# Altium footprint library SparkFun-Aesthetics.PCBLIB: 96 footprints (part 1 of 6)
Each footprint in its own frame and in the unit in brackets; x right, y up, seen from the top. Pads: shape width x height; smd on the part's side, far side on the other; paste and mask are expansions set on the pad; w line width, h text height; cw(c..) or ccw(c..) is an arc to the next point about the centre after c.
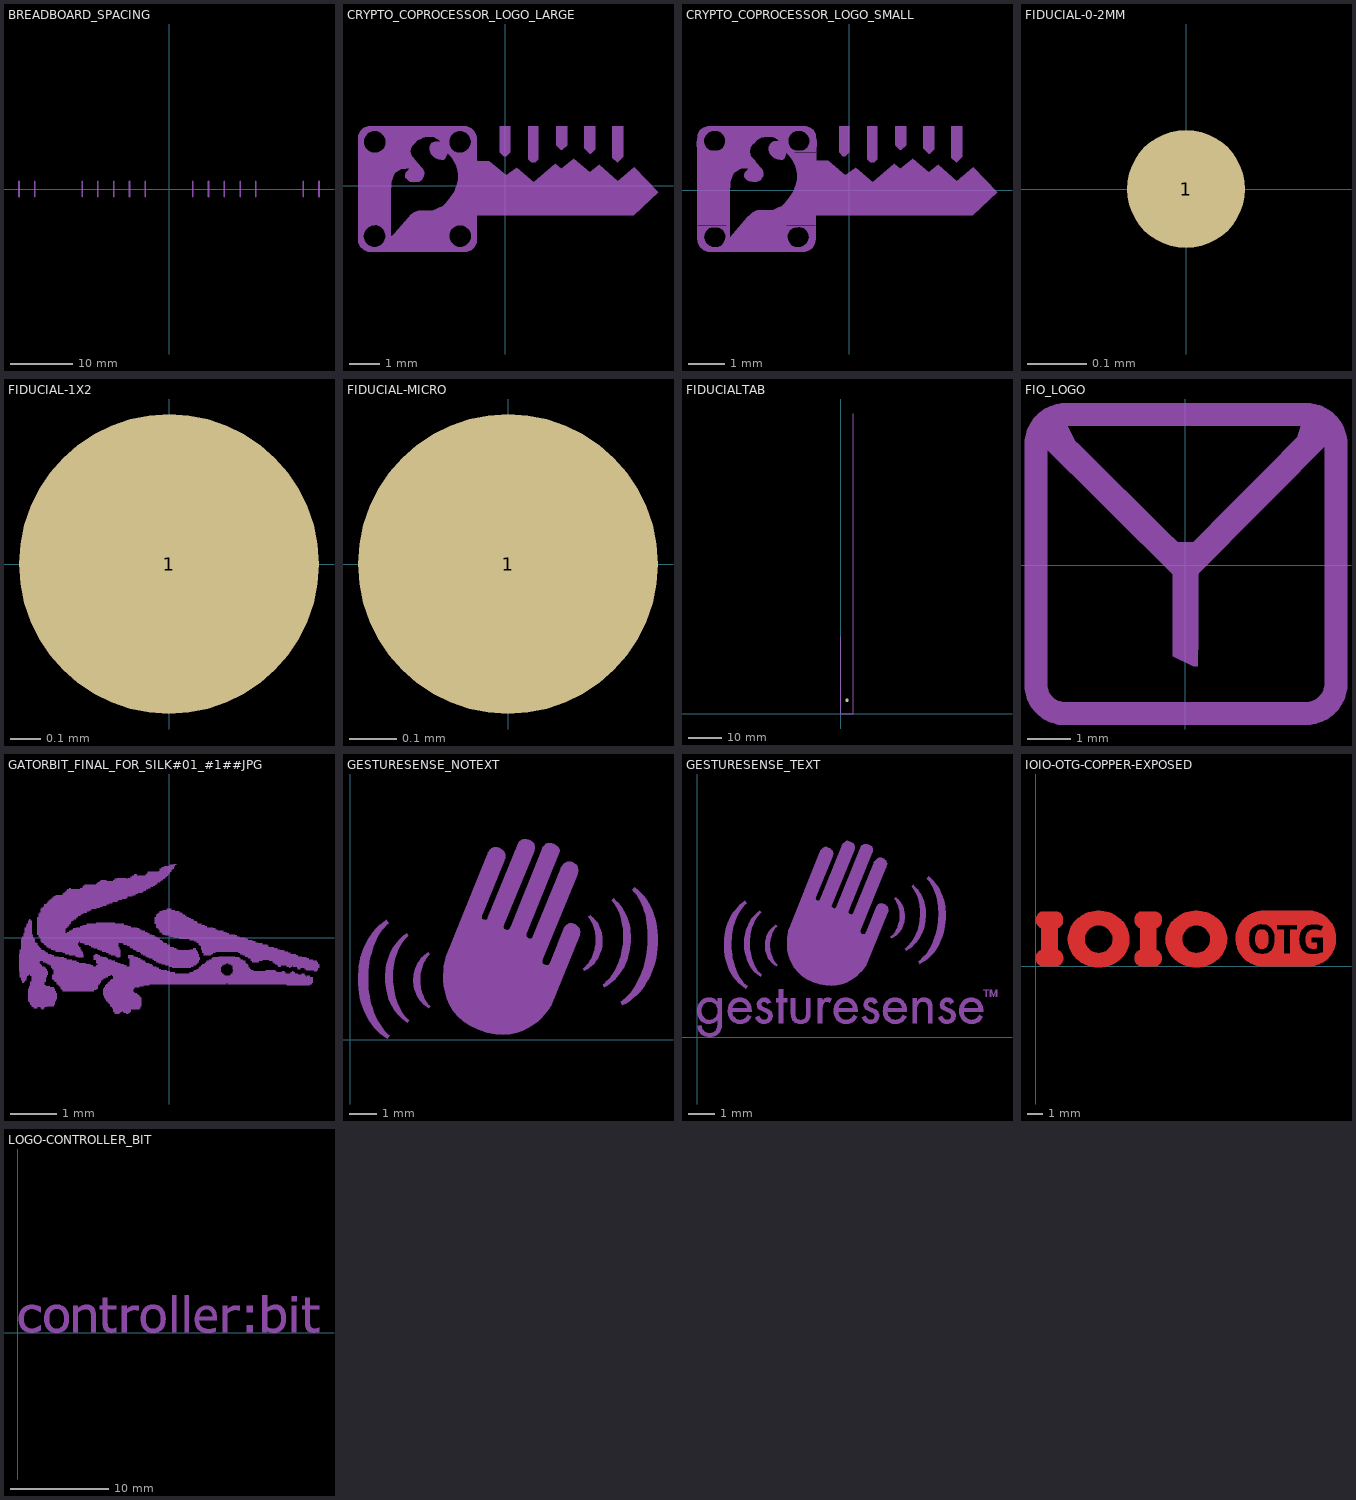
[diagram p0: the footprints below, top view; thin cyan lines are the x and y axes]

## BREADBOARD_SPACING [mm]
tDocu:
  lines w0.254: -24.13,-1.27 -24.13,1.27 ; -21.59,-1.27 -21.59,1.27 ; -13.97,-1.27 -13.97,1.27 ; -11.43,-1.27 -11.43,1.27 ; -8.89,-1.27 -8.89,1.27 ; -6.35,-1.27 -6.35,1.27 ; -3.81,-1.27 -3.81,1.27 ; 3.81,-1.27 3.81,1.27 ; 6.35,-1.27 6.35,1.27 ; 8.89,-1.27 8.89,1.27 ; 11.43,-1.27 11.43,1.27 ; 13.97,-1.27 13.97,1.27 ; 21.59,-1.27 21.59,1.27 ; 24.13,-1.27 24.13,1.27
  text "Breadboard row spacing:" at 0,1.905 h1.08

## CREATIVE_COMMONS [mm]
tDocu:
  text "Released under the Creative Commons Attribution Share-Alike 4.0 License" at -20.32,5.08 h1.51
  text "https://creativecommons.org/licenses/by-sa/4.0/" at 0,2.54 h1.51
  text "Designed by:" at 11.43,0 h1.51

## CRYPTO_COPROCESSOR_LOGO_LARGE [mm]
tPlace:
  drawing of 13 lines, arcs and shapes, not listed

## CRYPTO_COPROCESSOR_LOGO_SMALL [mm]
tPlace:
  drawing of 13 lines, arcs and shapes, not listed

## DUMMY [mm]

## FIDUCIAL-0-2MM [mm]
pads (1):
  rrect100% 0.2x0.2 smd paste+0 mask+0: 1(0,0)
Top Solder:
  circle w0.152: c0,0 r0.06

## FIDUCIAL-1X2 [mm]
pads (1):
  rrect100% 1x1 smd paste+0: 1(0,0)

## FIDUCIAL-MICRO [mm]
pads (1):
  rrect100% 0.635x0.635 smd paste+0: 1(0,0)

## FIDUCIALTAB [mm]
pads (1):
  rrect100% 1x1 smd: P$2(1.905,4.064)
Dimension:
  lines w0.203: 0,22.86 0,0 3.81,0 3.81,21.59 ; 3.81,2.54 3.81,21.59 ; 3.81,88.9 3.81,21.59

## FIO_LOGO [mm]
bPlace:
  region: 0.29,-1.93 0.29,-2.337 0.178,-2.337 -0.292,-2.106 -0.292,-1.928
  lines w0.533: -3.454,-2.718 ccw(c-2.794,-2.769) -2.845,-3.429 ; -3.454,-2.692 -3.454,2.845 cw(c-2.769,2.794) -2.718,3.48 ; -2.896,-3.429 -2.845,-3.429 ; -2.692,3.48 2.845,3.48 cw(c2.794,2.794) 3.48,2.743 3.48,-2.819 ; 3.48,-2.794 cw(c2.794,-2.743) 2.743,-3.429 -2.845,-3.429
  lines w0.559: -3.073,3.302 -2.769,2.692 ; 2.819,2.794 2.997,3.353
  lines w0.61: -3.251,3.15 0.025,-0.102 ; -0.178,0.229 0.127,0.229 ; 0,-1.905 0,0.152 ; 0,-0.076 3.251,3.2

## FOUR_LAYER_WARNING [mm]
tDocu:
  text "THIS IS A FOUR-LAYER BOARD!" at 0,0 h1.08

## GATORBIT_FINAL_FOR_SILK#01_#1##JPG [mm]
tPlace:
  drawing of 400 lines, arcs and shapes, not listed

## GESTURESENSE_NOTEXT [mm]
tPlace:
  drawing of 7 lines, arcs and shapes, not listed

## GESTURESENSE_TEXT [mm]
tPlace:
  drawing of 36 lines, arcs and shapes, not listed

## IOIO-OTG-COPPER-EXPOSED [mm]
Top:
  region: 154 vertices and 0 holes, not listed, extent 0.002,0.002 1.739,3.469
  region: 4.026,2.611 4.141,2.601 4.163,2.599 4.207,2.592 4.25,2.58 4.291,2.564 4.311,2.554 4.339,2.539 4.395,2.509 4.45,2.477 4.504,2.443 4.531,2.426 4.555,2.41 4.6,2.374 4.642,2.334 4.68,2.29 4.698,2.267 4.719,2.237 4.76,2.176 4.798,2.113 4.833,2.048 4.849,2.015 4.865,1.978 4.89,1.902 4.905,1.824 4.909,1.744 4.907,1.704 4.904,1.676 4.898,1.62 4.889,1.564 4.878,1.509 4.872,1.481 4.864,1.449 4.841,1.386 4.811,1.326 4.775,1.27 4.754,1.244 4.734,1.22 4.693,1.173 4.651,1.126 4.608,1.08 4.586,1.058 4.561,1.034 4.507,0.989 4.449,0.951 4.386,0.92 4.354,0.907 4.326,0.897 4.269,0.878 4.212,0.862 4.154,0.847 4.125,0.841 4.11,0.838 4.08,0.833 4.05,0.83 4.019,0.828 4.004,0.828 4.004,-0.071 4.24,-0.071 4.453,-0.036 4.53,-0.023 4.682,0.017 4.829,0.072 4.969,0.14 5.036,0.181 5.102,0.221 5.227,0.309 5.347,0.405 5.461,0.508 5.515,0.563 5.565,0.614 5.654,0.726 5.731,0.846 5.796,0.973 5.822,1.04 5.845,1.098 5.884,1.218 5.917,1.339 5.945,1.461 5.955,1.523 5.965,1.584 5.974,1.707 5.97,1.831 5.955,1.954 5.941,2.014 5.928,2.07 5.897,2.182 5.862,2.293 5.822,2.401 5.799,2.455 5.772,2.519 5.706,2.64 5.627,2.754 5.537,2.859 5.487,2.907 5.437,2.955 5.332,3.046 5.223,3.133 5.111,3.215 5.053,3.253 5.002,3.287 4.893,3.345 4.78,3.393 4.662,3.429 4.602,3.442 4.563,3.45 4.484,3.466 4.406,3.48 4.327,3.493 4.287,3.499 4.264,3.503 4.217,3.509 4.17,3.515 4.123,3.521 4.099,3.523 4.09,3.524 4.072,3.525 4.053,3.526 4.035,3.525 4.026,3.525
  region: 4.024,2.611 3.869,2.601 3.847,2.599 3.803,2.592 3.76,2.58 3.719,2.564 3.699,2.554 3.671,2.539 3.615,2.509 3.56,2.477 3.506,2.443 3.479,2.426 3.455,2.41 3.41,2.374 3.368,2.334 3.329,2.29 3.312,2.267 3.291,2.237 3.25,2.176 3.212,2.113 3.177,2.048 3.161,2.015 3.145,1.978 3.12,1.902 3.105,1.824 3.101,1.744 3.103,1.704 3.106,1.676 3.112,1.62 3.121,1.564 3.132,1.509 3.138,1.481 3.146,1.449 3.169,1.386 3.199,1.326 3.235,1.27 3.256,1.244 3.276,1.22 3.317,1.173 3.359,1.126 3.402,1.08 3.424,1.058 3.449,1.034 3.503,0.989 3.561,0.951 3.624,0.92 3.656,0.907 3.684,0.897 3.741,0.878 3.798,0.862 3.856,0.847 3.885,0.841 3.9,0.838 3.93,0.833 3.96,0.83 3.991,0.828 4.006,0.828 4.006,-0.071 3.77,-0.071 3.557,-0.036 3.48,-0.023 3.328,0.017 3.182,0.072 3.041,0.14 2.974,0.181 2.909,0.221 2.783,0.309 2.663,0.405 2.549,0.508 2.495,0.563 2.445,0.614 2.356,0.726 2.279,0.846 2.214,0.973 2.188,1.04 2.165,1.098 2.126,1.218 2.093,1.339 2.066,1.461 2.055,1.523 2.045,1.584 2.036,1.707 2.04,1.831 2.055,1.954 2.069,2.014 2.082,2.07 2.113,2.182 2.148,2.293 2.189,2.401 2.211,2.455 2.238,2.519 2.304,2.64 2.383,2.754 2.473,2.859 2.523,2.907 2.573,2.955 2.678,3.046 2.787,3.133 2.899,3.215 2.957,3.253 3.008,3.287 3.117,3.345 3.23,3.393 3.348,3.429 3.408,3.442 3.447,3.45 3.526,3.466 3.604,3.48 3.683,3.493 3.723,3.499 3.746,3.503 3.793,3.509 3.84,3.515 3.888,3.521 3.911,3.523 3.925,3.524 3.953,3.526 3.982,3.526 4.01,3.526 4.024,3.525
  region: 157 vertices and 0 holes, not listed, extent 6.302,0.002 8.039,3.469
  region: 10.266,2.611 10.381,2.601 10.403,2.599 10.447,2.592 10.49,2.58 10.531,2.564 10.551,2.554 10.579,2.539 10.635,2.509 10.69,2.477 10.744,2.443 10.771,2.426 10.795,2.41 10.84,2.374 10.882,2.334 10.92,2.29 10.938,2.267 10.959,2.237 11,2.176 11.037,2.113 11.072,2.048 11.089,2.015 11.105,1.978 11.13,1.903 11.145,1.824 11.149,1.744 11.147,1.704 11.144,1.676 11.138,1.62 11.129,1.564 11.118,1.509 11.112,1.481 11.103,1.449 11.081,1.386 11.051,1.326 11.015,1.27 10.994,1.244 10.974,1.22 10.933,1.173 10.891,1.126 10.848,1.08 10.826,1.058 10.801,1.034 10.747,0.989 10.689,0.951 10.626,0.92 10.594,0.907 10.566,0.897 10.509,0.878 10.452,0.862 10.394,0.847 10.365,0.841 10.35,0.838 10.32,0.833 10.29,0.83 10.259,0.828 10.244,0.828 10.244,-0.071 10.48,-0.071 10.693,-0.036 10.77,-0.023 10.922,0.017 11.068,0.072 11.209,0.14 11.276,0.181 11.342,0.221 11.467,0.309 11.587,0.405 11.701,0.508 11.755,0.563 11.805,0.614 11.894,0.726 11.971,0.846 12.036,0.973 12.062,1.04 12.085,1.098 12.124,1.218 12.157,1.339 12.185,1.461 12.195,1.523 12.205,1.584 12.214,1.707 12.21,1.831 12.195,1.954 12.181,2.014 12.168,2.07 12.137,2.182 12.102,2.293 12.062,2.401 12.039,2.455 12.012,2.519 11.946,2.64 11.867,2.754 11.777,2.859 11.727,2.907 11.677,2.955 11.572,3.046 11.463,3.133 11.351,3.215 11.293,3.253 11.242,3.287 11.133,3.345 11.02,3.393 10.902,3.429 10.842,3.442 10.803,3.45 10.724,3.466 10.646,3.48 10.567,3.493 10.527,3.499 10.504,3.503 10.457,3.509 10.41,3.515 10.363,3.521 10.339,3.523 10.33,3.524 10.312,3.525 10.293,3.526 10.275,3.525 10.266,3.525
  region: 10.264,2.611 10.109,2.601 10.087,2.599 10.043,2.592 10,2.58 9.959,2.564 9.939,2.554 9.911,2.539 9.855,2.509 9.8,2.477 9.746,2.443 9.719,2.426 9.695,2.41 9.65,2.374 9.608,2.334 9.569,2.29 9.552,2.267 9.531,2.237 9.49,2.176 9.452,2.113 9.417,2.048 9.401,2.015 9.385,1.978 9.36,1.903 9.345,1.824 9.341,1.744 9.343,1.704 9.346,1.676 9.352,1.62 9.361,1.564 9.372,1.509 9.378,1.481 9.386,1.449 9.409,1.386 9.439,1.326 9.475,1.27 9.496,1.244 9.516,1.22 9.557,1.173 9.599,1.126 9.642,1.08 9.664,1.058 9.689,1.034 9.743,0.989 9.801,0.951 9.864,0.92 9.896,0.907 9.924,0.897 9.981,0.878 10.038,0.862 10.096,0.847 10.125,0.841 10.14,0.838 10.17,0.833 10.2,0.83 10.231,0.828 10.246,0.828 10.246,-0.071 10.01,-0.071 9.797,-0.036 9.72,-0.023 9.568,0.017 9.422,0.072 9.281,0.14 9.214,0.181 9.149,0.221 9.023,0.309 8.903,0.405 8.789,0.508 8.735,0.563 8.685,0.614 8.596,0.726 8.519,0.846 8.454,0.973 8.428,1.04 8.405,1.098 8.366,1.218 8.333,1.339 8.305,1.461 8.295,1.523 8.285,1.584 8.276,1.707 8.28,1.831 8.295,1.954 8.309,2.014 8.322,2.07 8.353,2.182 8.388,2.293 8.429,2.401 8.451,2.455 8.478,2.519 8.544,2.64 8.623,2.754 8.713,2.859 8.763,2.907 8.813,2.955 8.918,3.046 9.027,3.133 9.139,3.215 9.197,3.253 9.248,3.287 9.357,3.345 9.47,3.393 9.588,3.429 9.648,3.442 9.687,3.45 9.766,3.466 9.844,3.48 9.923,3.493 9.963,3.499 9.986,3.503 10.033,3.509 10.08,3.515 10.128,3.521 10.151,3.523 10.165,3.524 10.193,3.526 10.222,3.526 10.25,3.526 10.264,3.525
  region: 156 vertices and 0 holes, not listed, extent 12.774,0 14.44,3.521
  region: 14.45,2.32 14.31,2.32 14.23,2.282 14.217,2.276 14.194,2.26 14.173,2.242 14.155,2.22 14.147,2.208 14.137,2.192 14.119,2.16 14.101,2.128 14.085,2.095 14.077,2.078 14.071,2.064 14.061,2.037 14.053,2.008 14.047,1.979 14.046,1.964 14.045,1.951 14.041,1.924 14.037,1.898 14.033,1.872 14.03,1.859 14.027,1.859 14.027,1.585 14.05,1.455 14.103,1.3 14.191,1.187 14.194,1.183 14.201,1.175 14.21,1.169 14.218,1.163 14.223,1.161 14.237,1.154 14.265,1.142 14.294,1.131 14.323,1.121 14.338,1.117 14.342,1.116 14.351,1.114 14.36,1.113 14.369,1.113 14.373,1.113 14.391,1.114 14.428,1.115 14.464,1.116 14.501,1.116 14.519,1.116 14.541,1.118 14.584,1.129 14.625,1.147 14.662,1.171 14.679,1.186 14.68,1.187 14.683,1.19 14.686,1.192 14.69,1.195 14.691,1.196 14.703,1.204 14.724,1.223 14.741,1.245 14.755,1.27 14.76,1.283 14.766,1.295 14.777,1.32 14.789,1.345 14.8,1.37 14.805,1.383 14.809,1.394 14.817,1.418 14.823,1.441 14.827,1.465 14.829,1.477 14.836,1.532 14.845,1.642 14.847,1.752 14.843,1.862 14.838,1.917 14.835,1.951 14.821,2.018 14.8,2.083 14.772,2.146 14.754,2.175 14.74,2.198 14.705,2.239 14.662,2.273 14.615,2.299 14.589,2.307 14.583,2.309 14.57,2.313 14.558,2.316 14.545,2.318 14.539,2.319 14.45,2.319
  region: 16.05,0.79 15.84,0.79 15.84,2.31 15.38,2.31 15.38,2.65 16.07,2.65 16.07,3.53 14.44,3.53 14.44,2.68 14.61,2.67 14.76,2.63 14.779,2.624 14.816,2.61 14.851,2.593 14.884,2.572 14.9,2.56 14.915,2.548 14.946,2.523 14.976,2.498 15.005,2.473 15.02,2.46 15.03,2.451 15.049,2.432 15.066,2.412 15.082,2.391 15.09,2.38 15.108,2.352 15.142,2.294 15.172,2.233 15.198,2.172 15.21,2.14 15.218,2.116 15.232,2.066 15.242,2.016 15.248,1.966 15.25,1.94 15.251,1.928 15.254,1.905 15.259,1.883 15.266,1.861 15.27,1.85 15.27,1.58 15.24,1.39 15.232,1.348 15.209,1.267 15.176,1.188 15.134,1.115 15.11,1.08 15.095,1.061 15.065,1.024 15.032,0.989 14.998,0.956 14.98,0.94 14.941,0.909 14.857,0.855 14.765,0.815 14.669,0.788 14.62,0.78 14.598,0.777 14.553,0.773 14.508,0.771 14.462,0.77 14.44,0.77 14.44,0 16.05,0
  region: 17.63,0.77 17.63,0 16.05,0 16.05,0.79 16.25,0.79 16.25,2.31 16.71,2.31 16.71,2.65 16.07,2.65 16.07,3.53 17.6,3.53 17.6,2.67 17.486,2.647 17.438,2.636 17.346,2.605 17.257,2.562 17.175,2.508 17.137,2.478 17.102,2.447 17.037,2.38 16.979,2.307 16.928,2.229 16.905,2.188 16.889,2.156 16.862,2.09 16.841,2.023 16.826,1.953 16.821,1.918 16.816,1.874 16.809,1.787 16.807,1.699 16.808,1.611 16.81,1.567 16.812,1.537 16.82,1.477 16.833,1.418 16.849,1.36 16.859,1.332 16.871,1.299 16.898,1.233 16.928,1.169 16.961,1.107 16.978,1.076 16.997,1.045 17.042,0.988 17.096,0.939 17.156,0.899 17.189,0.883 17.312,0.825 17.474,0.781
  region: 157 vertices and 0 holes, not listed, extent 17.235,0 19.171,3.53
Top Solder:
  drawing of 11 lines, arcs and shapes, not listed

## LOGO-CONTROLLER_BIT [mm]
tPlace:
  drawing of 2553 lines, arcs and shapes, not listed